# Altium footprint library RESC1005N_TEST.PcbLib: 1 footprints
Each footprint in its own frame and in the unit in brackets; x right, y up, seen from the top. Pads: shape width x height; smd on the part's side, far side on the other; paste and mask are expansions set on the pad; w line width, h text height; cw(c..) or ccw(c..) is an arc to the next point about the centre after c.
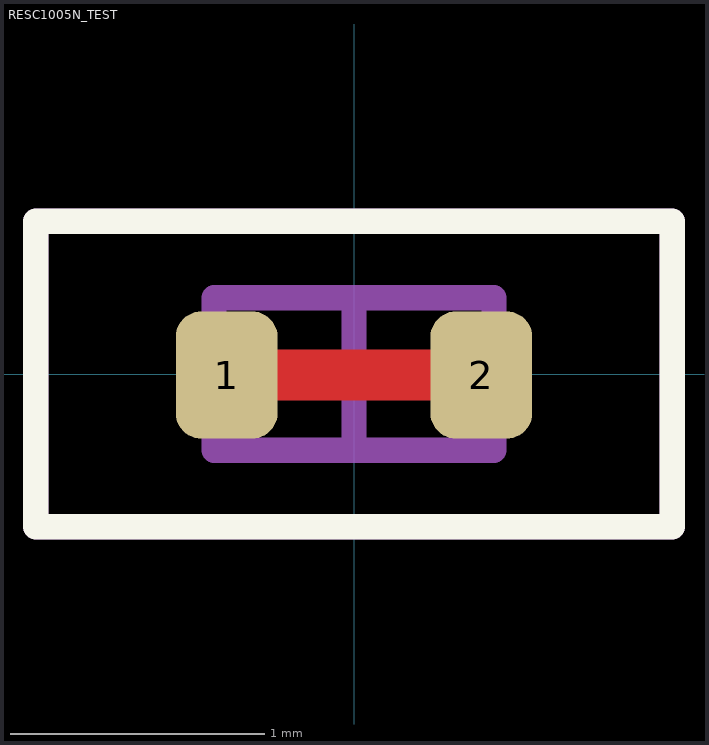
[diagram p0: the footprint, top view; thin cyan lines are the x and y axes]

## RESC1005N_TEST [mm]
pads (2):
  rrect50% 0.4x0.5 smd: 1(-0.5,-0.004) 2(0.5,-0.004)
Top Layer:
  lines w0.2: -0.5,-0.004 0.5,-0.004
Top Overlay:
  lines w0.1: -1.25,-0.6 1.25,-0.6 1.25,0.6 -1.25,0.6 -1.25,-0.6
Mechanical 13:
  lines w0.1: -0.55,-0.3 -0.55,0.3 0.55,0.3 0.55,-0.3 -0.55,-0.3
Mechanical 15:
  lines w0.1: -0.3,0 0.3,0 ; 0,-0.3 0,0.3 ; -1.25,-0.6 1.25,-0.6 1.25,0.6 -1.25,0.6 -1.25,-0.6
3D body "User Library-res0402-1.STEP": height 0.3, standoff 0, extent -0.5,-0.254 0.5,0.246